# EAGLE library part CD74HC165M (library nma-eagle)
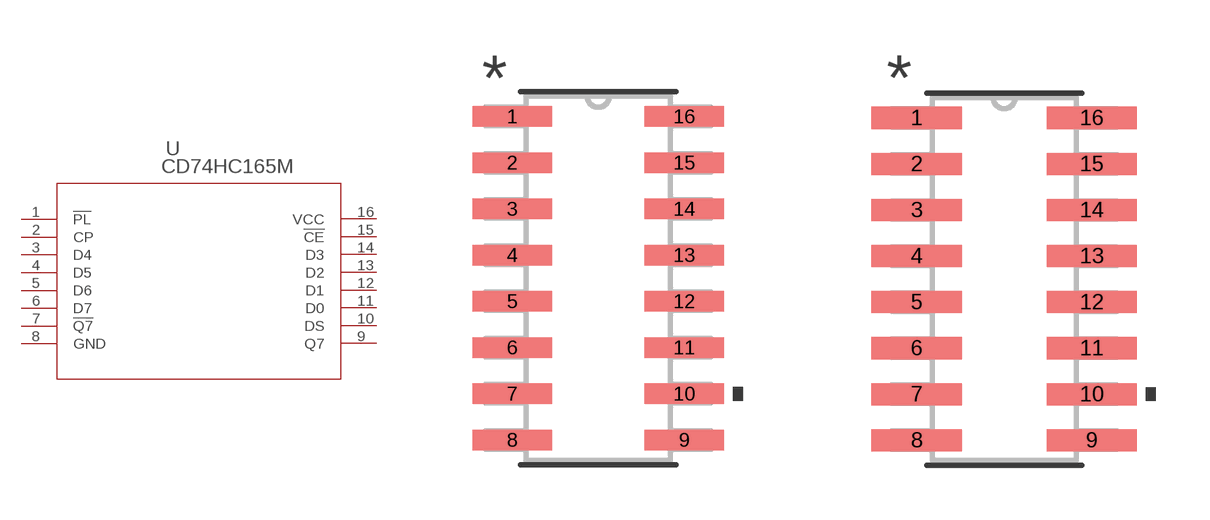
[diagram p4: symbol with the pads of D16; footprints D16, D16-M]

Designator prefix U

## CD74HC165M (MANUFACTURER_PART_NUMBER: CD74HC165M; VENDOR: Texas Instruments)  [D16]
1  !PL  in
2  CP  in
3  D4  in
4  D5  in
5  D6  in
6  D7  in
7  !Q7  out
8  GND  pwr
9  Q7  out
10  DS  in
11  D0  in
12  D1  in
13  D2  in
14  D3  in
15  !CE  in
16  VCC  pwr

## CD74HC165MD16-M (MANUFACTURER_PART_NUMBER: CD74HC165M; VENDOR: Texas Instruments)  [D16-M]
Pads as for D16

## CD74HC165MD16-L (MANUFACTURER_PART_NUMBER: CD74HC165M; VENDOR: Texas Instruments)  [D16-L]
Pads as for D16

## Footprint D16 (pad centres in mm)
smd 2.184 x 0.559: 1 -2.362,4.445; 2 -2.362,3.175; 3 -2.362,1.905; 4 -2.362,0.635; 5 -2.362,-0.635; 6 -2.362,-1.905; 7 -2.362,-3.175; 8 -2.362,-4.445; 9 2.362,-4.445; 10 2.362,-3.175; 11 2.362,-1.905; 12 2.362,-0.635; 13 2.362,0.635; 14 2.362,1.905; 15 2.362,3.175; 16 2.362,4.445

## Footprint D16-M (pad centres in mm)
smd 2.489 x 0.61: 1 -2.413,4.445; 2 -2.413,3.175; 3 -2.413,1.905; 4 -2.413,0.635; 5 -2.413,-0.635; 6 -2.413,-1.905; 7 -2.413,-3.175; 8 -2.413,-4.445; 9 2.413,-4.445; 10 2.413,-3.175; 11 2.413,-1.905; 12 2.413,-0.635; 13 2.413,0.635; 14 2.413,1.905; 15 2.413,3.175; 16 2.413,4.445

## Footprint D16-L (pad centres in mm)
smd 1.88 x 0.508: 1 -2.311,4.445; 2 -2.311,3.175; 3 -2.311,1.905; 4 -2.311,0.635; 5 -2.311,-0.635; 6 -2.311,-1.905; 7 -2.311,-3.175; 8 -2.311,-4.445; 9 2.311,-4.445; 10 2.311,-3.175; 11 2.311,-1.905; 12 2.311,-0.635; 13 2.311,0.635; 14 2.311,1.905; 15 2.311,3.175; 16 2.311,4.445